# Altium footprint library scd4x.PcbLib: 1 footprints
Each footprint in its own frame and in the unit in brackets; x right, y up, seen from the top. Pads: shape width x height; smd on the part's side, far side on the other; paste and mask are expansions set on the pad; w line width, h text height; cw(c..) or ccw(c..) is an arc to the next point about the centre after c.
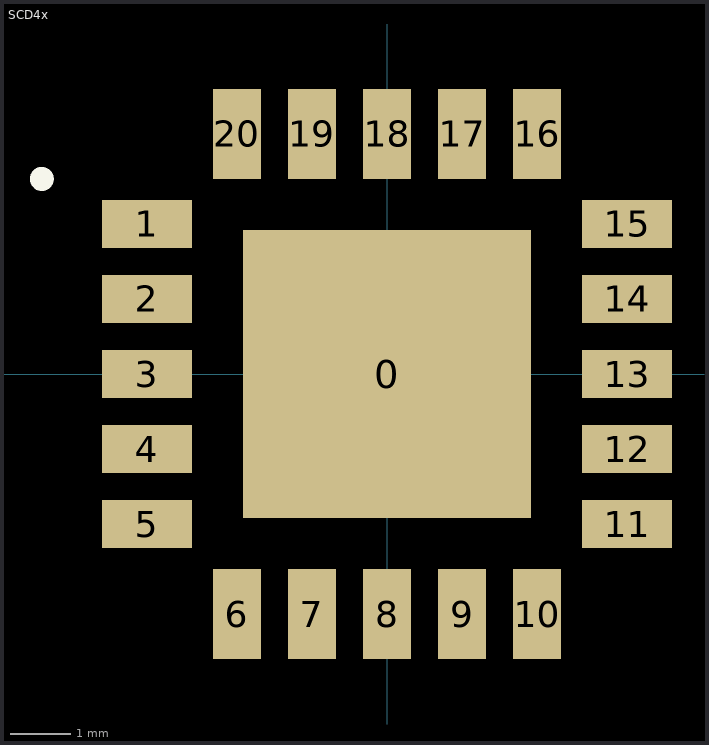
[diagram p0: the footprint, top view; thin cyan lines are the x and y axes]

## SCD4x [mm] "SENSIRON CO2 SENSOR"
height 6.5
pads (21):
  rect 4.8x4.8 smd paste-2539.97 mask+0.1: 0(0,0)
  rect 1.5x0.8 smd: 1(-4,2.5) 2(-4,1.25) 3(-4,0) 4(-4,-1.25) 5(-4,-2.5) 11(4,-2.5) 12(4,-1.25) 13(4,0) 14(4,1.25) 15(4,2.5)
  rect 0.8x1.5 smd: 6(-2.5,-4) 7(-1.25,-4) 8(0,-4) 9(1.25,-4) 10(2.5,-4) 16(2.5,4) 17(1.25,4) 18(0,4) 19(-1.25,4) 20(-2.5,4)
Top Overlay:
  circle w0.2: c-5.75,3.25 r0.1
Top Paste:
  region: -2.15,-2.15 -0.35,-2.15 -0.35,-0.35 -2.15,-0.35
  region: 2.15,2.15 0.35,2.15 0.35,0.35 2.15,0.35
  region: 2.15,-2.15 2.15,-0.35 0.35,-0.35 0.35,-2.15
  region: -2.15,2.15 -2.15,0.35 -0.35,0.35 -0.35,2.15
3D body "Sensirion_CO2_Sensors_SCD4x_STEP_file.step": height 6.28, standoff -0.03, extent -5.05,-5.05 5.05,5.05